# EAGLE library part FLY (library wheat)
Flyback transformer ETD39
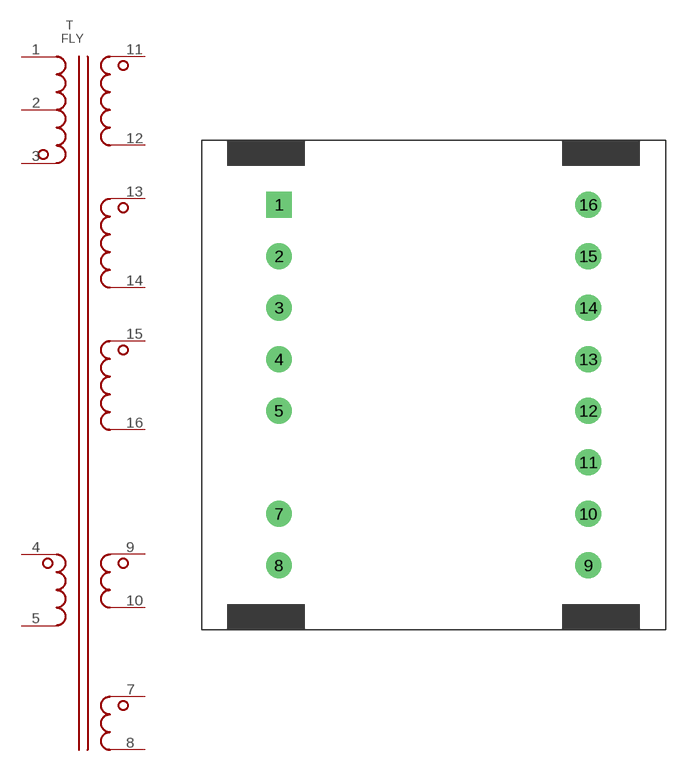
[diagram p42: symbol with the pads of ETD39_NP6; footprint ETD39_NP6]

Designator prefix T

## FLY  [ETD39_NP6]
1  1  pas
2  2  pas
3  3  pas
4  4  pas
5  5  pas
7  7  pas
8  8  pas
9  9  pas
10  10  pas
11  11  pas
12  12  pas
13  13  pas
14  14  pas
15  15  pas
16  16  pas

## Footprint ETD39_NP6 (pad centres in mm)
ETD39 core, horizontal PCB bobbin, no pin 6
drill 1.422 pad 2.54 square: 1 0,0
drill 1.422 pad 2.54: 2 0,-5.08; 3 0,-10.16; 4 0,-15.24; 5 0,-20.32; 7 0,-30.48; 8 0,-35.56; 9 30.48,-35.56; 10 30.48,-30.48; 11 30.48,-25.4; 12 30.48,-20.32; 13 30.48,-15.24; 14 30.48,-10.16; 15 30.48,-5.08; 16 30.48,0